# Altium footprint library MT29F4G01ADAGDWB-IT_G_TR.PCBLIB: 2 footprints
Each footprint in its own frame and in the unit in brackets; x right, y up, seen from the top. Pads: shape width x height; smd on the part's side, far side on the other; paste and mask are expansions set on the pad; w line width, h text height; cw(c..) or ccw(c..) is an arc to the next point about the centre after c.
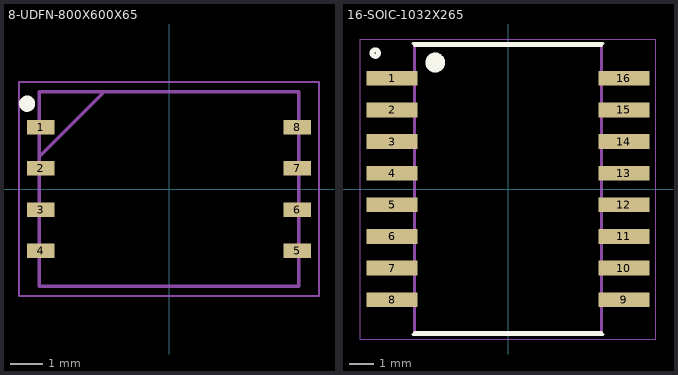
[diagram p0: the footprints below, top view; thin cyan lines are the x and y axes]

## 8-UDFN-800X600X65 [mm] "8-U-PDFN (8x6)"
height 0.017
pads (8):
  rect 0.85x0.45 smd: 1(-3.95,1.905) 2(-3.95,0.635) 3(-3.95,-0.635) 4(-3.95,-1.905) 5(3.95,-1.905) 6(3.95,-0.635) 7(3.95,0.635) 8(3.95,1.905)
Top Overlay:
  circle w0.25: c-4.375,2.63 r0.125
Assembly Top:
  lines w0.1: -4,1 -2,3 ; -4,-3 4,-3 4,3 -4,3 -4,-3
Courtyard Top:
  lines w0.05: -4.625,-3.3 4.625,-3.3 4.625,3.3 -4.625,3.3 -4.625,-3.3
3D body: height 0.65, standoff 0, extent -4.05,-3 4.05,3

## 16-SOIC-1032X265 [mm] "16-SOIC (0.295\", 7.50mm Width)"
pads (16):
  rect 2.05x0.59 smd: 1(-4.655,4.445) 2(-4.655,3.175) 3(-4.655,1.905) 4(-4.655,0.635) 5(-4.655,-0.635) 6(-4.655,-1.905) 7(-4.655,-3.175) 8(-4.655,-4.445) 9(4.655,-4.445) 10(4.655,-3.175) 11(4.655,-1.905) 12(4.655,-0.635) 13(4.655,0.635) 14(4.655,1.905) 15(4.655,3.175) 16(4.655,4.445)
Top Overlay:
  circle w0.4: c-2.921,5.08 r0.2
  circle w0.2: c-5.334,5.461 r0.13
  lines w0.127: -3.81,-5.842 3.81,-5.842 ; -3.81,5.842 3.81,5.842 ; -3.75,-5.775 3.75,-5.775 ; -3.75,5.775 3.75,5.775
Assembly Top:
  lines w0.127: -3.75,-5.775 -3.75,5.775 3.75,5.775 3.75,-5.775 -3.75,-5.775
Courtyard Top:
  lines w0.05: -5.93,-6.025 -5.93,6.025 5.93,6.025 5.93,-6.025 -5.93,-6.025